# EAGLE library part HCF4042BEY (library ST Microelctronics_By_element14_Batch_1)
QUAD CLOCKED D LATCH
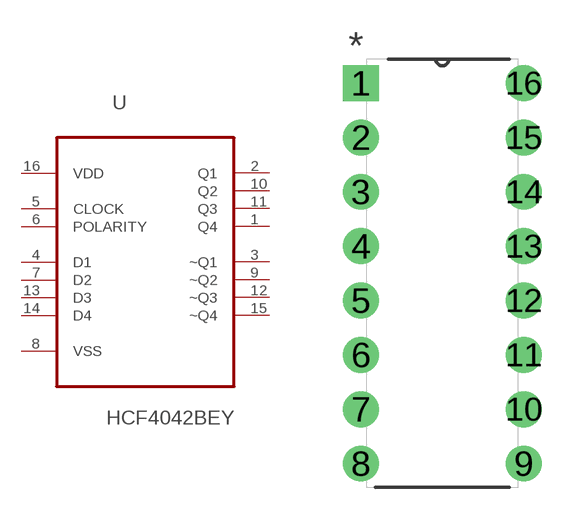
[diagram p13: symbol with the pads of DIP254P762X510-16; footprint DIP254P762X510-16]

Designator prefix U

## HCF4042BEY (MPN: HCF4042BEY; OC_FARNELL: 1094192; OC_NEWARK: 89K0568; PACKAGE: 16-DIP; SUPPLIER: STMICROELECTRONICS)  [DIP254P762X510-16]
1  Q4  out
2  Q1  out
3  ~Q1  out
4  D1  in
5  CLOCK  in
6  POLARITY  in
7  D2  in
8  VSS  pwr
9  ~Q2  out
10  Q2  out
11  Q3  out
12  ~Q3  out
13  D3  in
14  D4  in
15  ~Q4  out
16  VDD  pwr

## Footprint DIP254P762X510-16 (pad centres in mm)
drill 1.118 square: 1 -7.62,17.78
drill 1.118: 2 -7.62,15.24; 3 -7.62,12.7; 4 -7.62,10.16; 5 -7.62,7.62; 6 -7.62,5.08; 7 -7.62,2.54; 8 -7.62,0; 9 0,0; 10 0,2.54; 11 0,5.08; 12 0,7.62; 13 0,10.16; 14 0,12.7; 15 0,15.24; 16 0,17.78